# Altium footprint library pre_MICROCIRCUITRY.PcbLib: 35 footprints (part 2 of 3)
Each footprint in its own frame and in the unit in brackets; x right, y up, seen from the top. Pads: shape width x height; smd on the part's side, far side on the other; paste and mask are expansions set on the pad; w line width, h text height; cw(c..) or ccw(c..) is an arc to the next point about the centre after c.
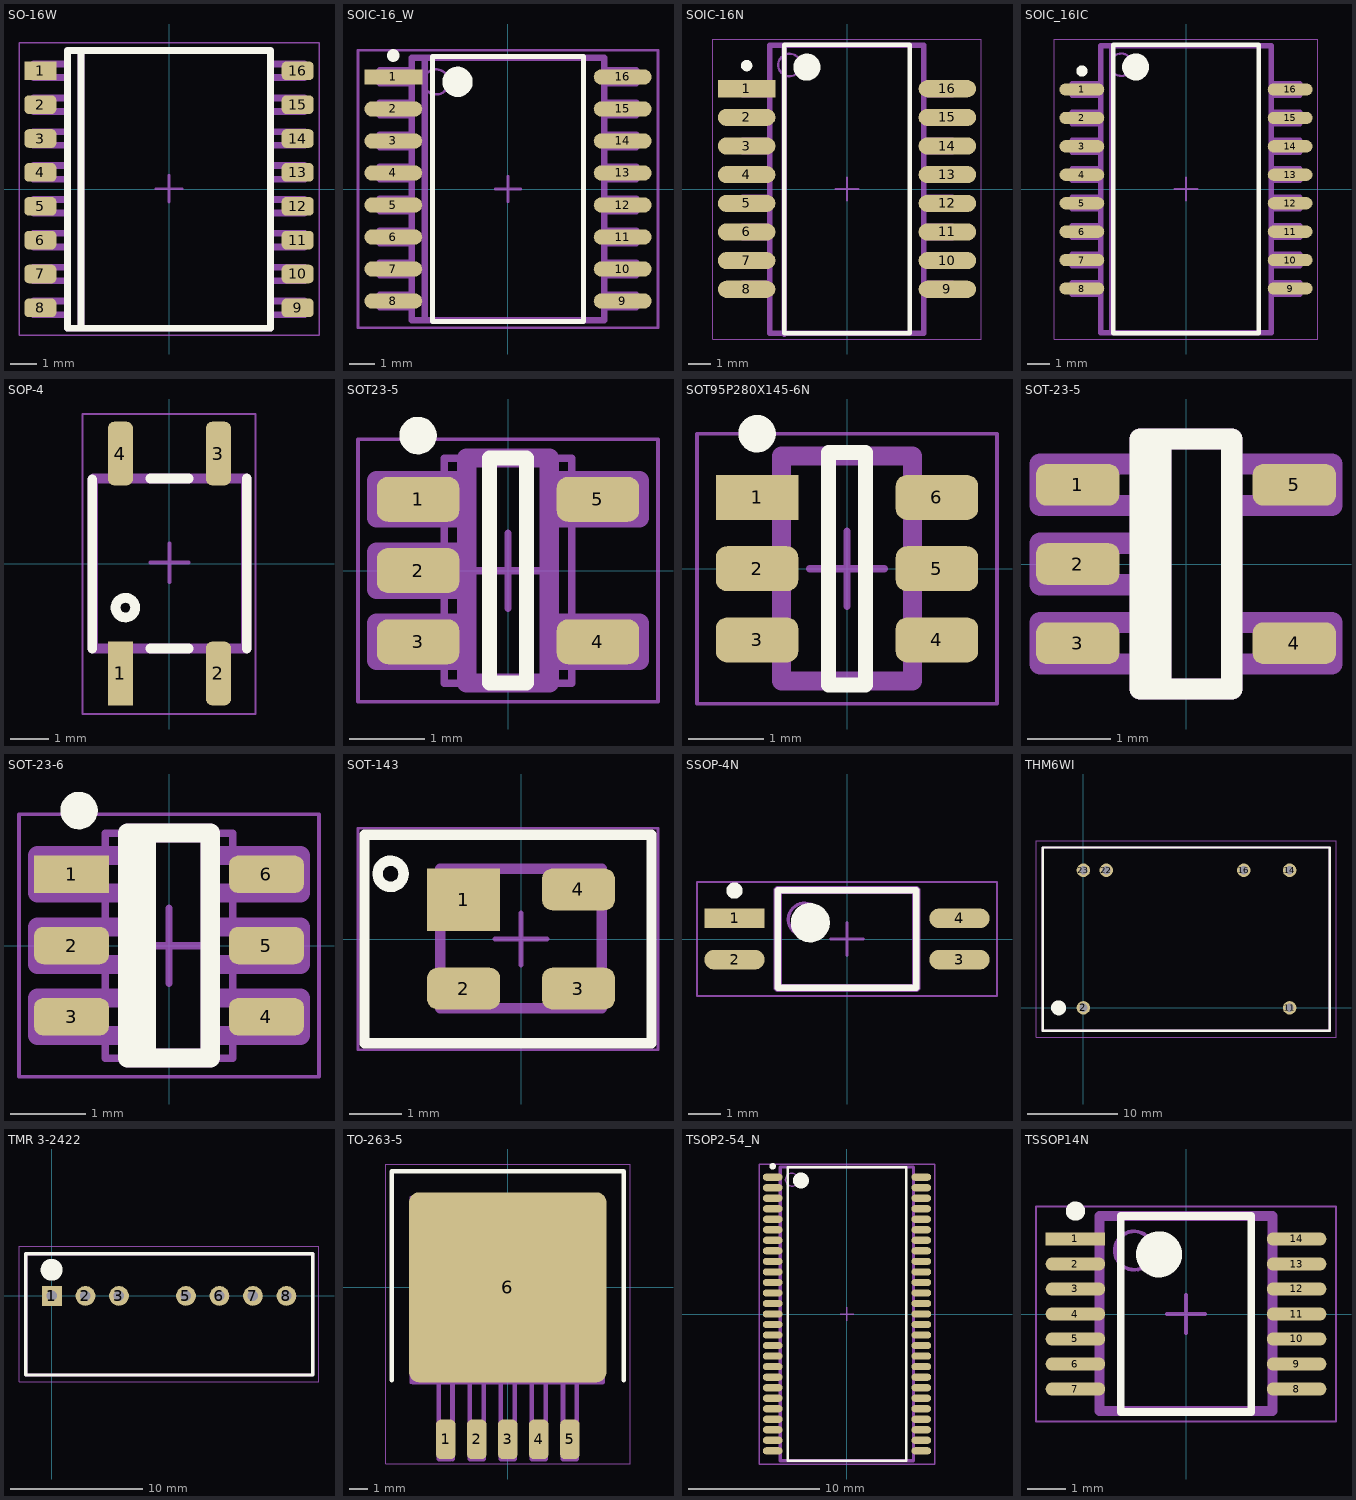
[diagram p1: the footprints below, top view; thin cyan lines are the x and y axes]

## SO-16W [mm]
height 2.65
pads (16):
  rect 1.2x0.7 smd: 1(-4.826,4.445)
  rrect50% 1.2x0.7 smd: 2(-4.826,3.175) 3(-4.826,1.905) 4(-4.826,0.635) 5(-4.826,-0.635) 6(-4.826,-1.905) 7(-4.826,-3.175) 8(-4.826,-4.445) 9(4.826,-4.445) 10(4.826,-3.175) 11(4.826,-1.905) 12(4.826,-0.635) 13(4.826,0.635) 14(4.826,1.905) 15(4.826,3.175) 16(4.826,4.445)
Top Overlay:
  lines w0.254: -3.302,-5.207 -3.302,5.207 ; -3.81,-5.207 -3.81,5.207 3.81,5.207 3.81,-5.207 -3.81,-5.207
Top Assy:
  lines w0.254: -3.81,-4.699 -5.08,-4.699 -5.08,-4.191 -3.81,-4.191 ; -3.81,-3.429 -5.08,-3.429 -5.08,-2.921 -3.81,-2.921 ; -3.81,-2.159 -5.08,-2.159 -5.08,-1.651 -3.81,-1.651 ; -3.81,-0.889 -5.08,-0.889 -5.08,-0.381 -3.81,-0.381 ; -3.81,0.381 -5.08,0.381 -5.08,0.889 -3.81,0.889 ; -3.81,1.651 -5.08,1.651 -5.08,2.159 -3.81,2.159 ; -3.81,2.921 -5.08,2.921 -5.08,3.429 -3.81,3.429 ; -3.81,4.191 -5.08,4.191 -5.08,4.699 -3.81,4.699 ; -3.302,-5.207 -3.302,5.207 ; 3.81,-4.699 5.08,-4.699 5.08,-4.191 3.81,-4.191 ; 3.81,-3.429 5.08,-3.429 5.08,-2.921 3.81,-2.921 ; 3.81,-2.159 5.08,-2.159 5.08,-1.651 3.81,-1.651 ; 3.81,-0.889 5.08,-0.889 5.08,-0.381 3.81,-0.381 ; 3.81,0.381 5.08,0.381 5.08,0.889 3.81,0.889 ; 3.81,1.651 5.08,1.651 5.08,2.159 3.81,2.159 ; 3.81,2.921 5.08,2.921 5.08,3.429 3.81,3.429 ; 3.81,4.191 5.08,4.191 5.08,4.699 3.81,4.699 ; -3.81,-5.207 3.81,-5.207 3.81,5.207 -3.81,5.207 -3.81,-5.207
Mechanical 13:
  lines w0.1: -3.81,-5.2 3.81,-5.2 3.81,5.207 -3.81,5.207 -3.81,-5.2
Mechanical 15:
  lines w0.05: -5.625,-5.475 -5.625,5.5 5.625,5.5 5.625,-5.475 -5.625,-5.475
  lines w0.1: -0.5,0.025 0.5,0.025 ; 0,-0.475 0,0.525
3D body: height 1.75, standoff 0, extent -3.81,-5.207 3.81,5.2

## SOIC-16_W [mm] "16-Pin Small Outline Integrated Circuit 1.27 mm Pitch, IPC Medium Density"
height 2.65
pads (16):
  rect 2.3x0.6 smd: 1(-4.55,4.445)
  oval 2.3x0.6 smd: 2(-4.55,3.175) 3(-4.55,1.905) 4(-4.55,0.635) 5(-4.55,-0.635) 6(-4.55,-1.905) 7(-4.55,-3.175) 8(-4.55,-4.445) 9(4.55,-4.445) 10(4.55,-3.175) 11(4.55,-1.905) 12(4.55,-0.635) 13(4.55,0.635) 14(4.55,1.905) 15(4.55,3.175) 16(4.55,4.445)
Top Overlay:
  circle w0.6: c-2,4.25 r0.3
  circle w0.25: c-4.55,5.295 r0.125
  lines w0.2: -3,-5.25 3,-5.25 3,5.25 -3,5.25 -3,-5.25
Top Assy:
  lines w0.254: -3.81,-4.695 -5.08,-4.695 -5.08,-4.187 -3.81,-4.187 ; -3.81,-3.425 -5.08,-3.425 -5.08,-2.917 -3.81,-2.917 ; -3.81,-2.155 -5.08,-2.155 -5.08,-1.647 -3.81,-1.647 ; -3.81,-0.885 -5.08,-0.885 -5.08,-0.377 -3.81,-0.377 ; -3.81,0.385 -5.08,0.385 -5.08,0.893 -3.81,0.893 ; -3.81,1.655 -5.08,1.655 -5.08,2.163 -3.81,2.163 ; -3.81,2.925 -5.08,2.925 -5.08,3.433 -3.81,3.433 ; -3.81,4.195 -5.08,4.195 -5.08,4.703 -3.81,4.703 ; -3.302,-5.203 -3.302,5.211 ; 3.81,-4.695 5.08,-4.695 5.08,-4.187 3.81,-4.187 ; 3.81,-3.425 5.08,-3.425 5.08,-2.917 3.81,-2.917 ; 3.81,-2.155 5.08,-2.155 5.08,-1.647 3.81,-1.647 ; 3.81,-0.885 5.08,-0.885 5.08,-0.377 3.81,-0.377 ; 3.81,0.385 5.08,0.385 5.08,0.893 3.81,0.893 ; 3.81,1.655 5.08,1.655 5.08,2.163 3.81,2.163 ; 3.81,2.925 5.08,2.925 5.08,3.433 3.81,3.433 ; 3.81,4.195 5.08,4.195 5.08,4.703 3.81,4.703 ; -3.81,-5.203 -3.81,5.211 3.81,5.211 3.81,-5.203 -3.81,-5.203
Mechanical 13:
  circle w0.1: c-2.85,4.25 r0.5
  lines w0.1: -3.75,-5.15 3.75,-5.15 3.75,5.15 -3.75,5.15 -3.75,-5.15
Mechanical 15:
  lines w0.1: -0.5,0 0.5,0 ; 0,-0.5 0,0.5 ; -5.95,-5.5 5.95,-5.5 5.95,5.5 -5.95,5.5 -5.95,-5.5
3D body: height 2.65, standoff 0, extent -3.75,-5.15 3.75,5.15

## SOIC-16N [mm] "SOIC, 16-Leads, Body 12,80x6,90mm, Pitch 1,27mm, IPC Medium Density"
height 5.65
pads (16):
  rect 2.55x0.76 smd: 1(-4.45,4.445)
  oval 2.55x0.76 smd: 2(-4.45,3.175) 3(-4.45,1.905) 4(-4.45,0.635) 5(-4.45,-0.635) 6(-4.45,-1.905) 7(-4.45,-3.175) 8(-4.45,-4.445) 9(4.45,-4.445) 10(4.45,-3.175) 11(4.45,-1.905) 12(4.45,-0.635) 13(4.45,0.635) 14(4.45,1.905) 15(4.45,3.175) 16(4.45,4.445)
Top Overlay:
  circle w0.6: c-1.775,5.4 r0.3
  circle w0.25: c-4.45,5.47 r0.125
  lines w0.2: -2.775,-6.4 2.775,-6.4 2.775,6.4 -2.775,6.4 -2.775,-6.4
Top Assy:
  lines w0.254: -3.435,-4.698 -4.625,-4.698 -4.625,-4.19 -3.435,-4.19 ; -3.435,-3.428 -4.625,-3.428 -4.625,-2.92 -3.435,-2.92 ; -3.435,-2.158 -4.625,-2.158 -4.625,-1.65 -3.435,-1.65 ; -3.435,-0.888 -4.625,-0.888 -4.625,-0.38 -3.435,-0.38 ; -3.435,0.382 -4.625,0.382 -4.625,0.89 -3.435,0.89 ; -3.435,1.652 -4.625,1.652 -4.625,2.16 -3.435,2.16 ; -3.435,2.922 -4.625,2.922 -4.625,3.43 -3.435,3.43 ; -3.435,4.192 -4.625,4.192 -4.625,4.7 -3.435,4.7 ; -2.777,-6.425 -2.777,6.35 ; 3.405,-4.698 4.675,-4.698 4.675,-4.19 3.405,-4.19 ; 3.405,-3.428 4.675,-3.428 4.675,-2.92 3.405,-2.92 ; 3.405,-2.158 4.675,-2.158 4.675,-1.65 3.405,-1.65 ; 3.405,-0.888 4.675,-0.888 4.675,-0.38 3.405,-0.38 ; 3.405,0.382 4.675,0.382 4.675,0.89 3.405,0.89 ; 3.405,1.652 4.675,1.652 4.675,2.16 3.405,2.16 ; 3.405,2.922 4.675,2.922 4.675,3.43 3.405,3.43 ; 3.405,4.192 4.675,4.192 4.675,4.7 3.405,4.7 ; -3.425,-6.4 -3.425,6.375 3.4,6.375 3.4,-6.4 -3.425,-6.4
Mechanical 13:
  circle w0.1: c-2.55,5.5 r0.5
  lines w0.1: -3.45,-6.4 3.45,-6.4 3.45,6.4 -3.45,6.4 -3.45,-6.4
Mechanical 15:
  lines w0.05: -5.95,-6.65 5.95,-6.65 5.95,6.65 -5.95,6.65 -5.95,-6.65
  lines w0.1: -0.5,0 0.5,0 ; 0,-0.5 0,0.5
3D body: height 5.65, standoff 0.3, extent -3.45,-6.4 3.45,6.4

## SOIC_16IC [mm] "D?"
height 2.64
pads (16):
  oval 2x0.55 smd: 1(-4.65,4.445) 2(-4.65,3.175) 3(-4.65,1.905) 4(-4.65,0.635) 5(-4.65,-0.635) 6(-4.65,-1.905) 7(-4.65,-3.175) 8(-4.65,-4.445) 9(4.65,-4.445) 10(4.65,-3.175) 11(4.65,-1.905) 12(4.65,-0.635) 13(4.65,0.635) 14(4.65,1.905) 15(4.65,3.175) 16(4.65,4.445)
Top Overlay:
  circle w0.6: c-2.25,5.45 r0.3
  circle w0.25: c-4.65,5.27 r0.125
  lines w0.2: -3.25,-6.45 3.25,-6.45 3.25,6.45 -3.25,6.45 -3.25,-6.45
Top Assy:
  lines w0.254: -3.81,-4.695 -5.08,-4.695 -5.08,-4.187 -3.81,-4.187 ; -3.81,-3.425 -5.08,-3.425 -5.08,-2.917 -3.81,-2.917 ; -3.81,-2.155 -5.08,-2.155 -5.08,-1.647 -3.81,-1.647 ; -3.81,-0.885 -5.08,-0.885 -5.08,-0.377 -3.81,-0.377 ; -3.81,0.385 -5.08,0.385 -5.08,0.893 -3.81,0.893 ; -3.81,1.655 -5.08,1.655 -5.08,2.163 -3.81,2.163 ; -3.81,2.925 -5.08,2.925 -5.08,3.433 -3.81,3.433 ; -3.81,4.195 -5.08,4.195 -5.08,4.703 -3.81,4.703 ; -3.302,-6.4 -3.302,6.4 ; 3.81,-4.695 5.08,-4.695 5.08,-4.187 3.81,-4.187 ; 3.81,-3.425 5.08,-3.425 5.08,-2.917 3.81,-2.917 ; 3.81,-2.155 5.08,-2.155 5.08,-1.647 3.81,-1.647 ; 3.81,-0.885 5.08,-0.885 5.08,-0.377 3.81,-0.377 ; 3.81,0.385 5.08,0.385 5.08,0.893 3.81,0.893 ; 3.81,1.655 5.08,1.655 5.08,2.163 3.81,2.163 ; 3.81,2.925 5.08,2.925 5.08,3.433 3.81,3.433 ; 3.81,4.195 5.08,4.195 5.08,4.703 3.81,4.703 ; -3.81,-6.425 -3.81,6.4 -0.716,6.4 3.094,6.4 3.81,6.4 3.81,-6.425 -3.81,-6.425
Mechanical 11:
  lines w0.05: -5.875,-6.7 5.875,-6.7 5.875,6.7 -5.875,6.7 -5.875,-6.7
  lines w0.1: -0.5,0 0.5,0 ; 0,-0.5 0,0.5
Mechanical 13:
  circle w0.1: c-2.9,5.55 r0.5
  lines w0.1: -3.8,-6.45 3.8,-6.45 3.8,6.45 -3.8,6.45 -3.8,-6.45
3D body: height 2.64, standoff 0.23, extent -3.8,-6.45 3.8,6.45

## SOP-4 [mm]
height 2.1
pads (4):
  rect 0.65x1.65 smd: 1(-1.27,-2.85)
  rrect50% 0.65x1.65 smd: 2(1.27,-2.85) 3(1.27,2.85) 4(-1.27,2.85)
Top Overlay:
  circle w0.254: c-1.143,-1.143 r0.254
  lines w0.254: -2,-2.2 -2,2.175 ; -0.5,-2.2 0.5,-2.2 ; -0.5,2.2 0.5,2.2 ; 2,-2.2 2,2.2
Top Assy:
  lines w0.254: -2,-2.2 -2,2.175 -1.975,2.2 2,2.2 2,-2.2 -2,-2.2
Mechanical 13:
  lines w0.1: -1.905,-2.2 1.905,-2.2 1.905,2.2 -1.905,2.2 -1.905,-2.2
Mechanical 15:
  lines w0.05: -2.25,-3.9 -2.25,3.875 2.225,3.875 2.225,-3.9 -2.25,-3.9
  lines w0.1: -0.5,0.025 0.5,0.025 ; 0,-0.475 0,0.525
3D body: height 2.1, standoff 0, extent -2,-2.2 2,2.2

## SOT23-5 [mm] "SOT23, 5-Leads, Body 2,90x2,80mm, Pitch 0,95mm, IPC Medium Density"
height 1.45
pads (5):
  rrect50% 1.1x0.6 smd: 1(-1.2,0.95) 2(-1.2,0) 3(-1.2,-0.95) 4(1.2,-0.95) 5(1.2,0.95)
Top Overlay:
  circle w0.25: c-1.2,1.8 r0.125
  lines w0.2: -0.25,-1.5 -0.25,1.5 0.25,1.5 0.25,-1.5 -0.25,-1.5
Top Assy:
  lines w0.254: -0.6,-1.2 -1.75,-1.2 -1.75,-0.7 -0.6,-0.7 ; -0.6,0.25 -1.75,0.25 -1.75,-0.25 -0.55,-0.25 ; -0.6,0.7 -1.75,0.7 -1.75,1.2 -1.45,1.2 -0.85,1.2 -0.55,1.2 ; 0.55,-1.2 1.75,-1.2 1.75,-0.7 0.55,-0.7 ; 0.55,0.7 1.75,0.7 1.75,1.2 0.6,1.2 ; -0.55,-1.5 -0.55,1.5 0.55,1.5 0.55,-1.5 -0.55,-1.5
Mechanical 13:
  lines w0.1: -0.85,-1.5 0.85,-1.5 0.85,1.5 -0.85,1.5 -0.85,-1.5
Mechanical 15:
  lines w0.05: -2,-1.75 2,-1.75 2,1.75 -2,1.75 -2,-1.75
  lines w0.1: -0.5,0 0.5,0 ; 0,-0.5 0,0.5
3D body: height 1.45, standoff 0.1, extent -0.85,-1.5 0.85,1.5

## SOT95P280X145-6N [mm] "SOT23-6L"
height 1.45
pads (6):
  rect 1.1x0.6 smd: 1(-1.2,0.95)
  rrect50% 1.1x0.6 smd: 2(-1.2,0) 3(-1.2,-0.95) 4(1.2,-0.95) 5(1.2,0) 6(1.2,0.95)
Top Overlay:
  circle w0.25: c-1.2,1.8 r0.125
  lines w0.2: -0.25,-1.55 -0.25,1.55 0.25,1.55 0.25,-1.55 -0.25,-1.55
Top Assy:
  lines w0.254: -0.875,-1.5 0.875,-1.5 0.875,1.5 -0.875,1.5 -0.875,-1.5
Mechanical 13:
  lines w0.1: -0.875,-1.525 0.875,-1.525 0.875,1.525 -0.875,1.525 -0.875,-1.525
Mechanical 15:
  lines w0.05: -2,-1.8 2,-1.8 2,1.8 -2,1.8 -2,-1.8
  lines w0.1: -0.5,0 0.5,0 ; 0,-0.5 0,0.5
3D body: height 1.45, standoff 0, extent -0.875,-1.525 0.875,1.525

## SOT-23-5 [mm]
height 1.45
pads (5):
  rrect50% 1x0.5 smd: 1(-1.3,0.95) 2(-1.3,0) 3(-1.3,-0.95) 4(1.3,-0.95) 5(1.3,0.95)
Top Overlay:
  lines w0.254: -0.3,-1.5 -0.3,1.5 -0.55,1.5 ; -0.55,1.5 0.55,1.5 0.55,-1.5 -0.55,-1.5 -0.55,1.5
Top Assy:
  lines w0.254: -0.6,-1.2 -1.75,-1.2 -1.75,-0.7 -0.6,-0.7 ; -0.6,0.25 -1.75,0.25 -1.75,-0.25 -0.55,-0.25 ; -0.55,0.75 -0.6,0.7 -1.75,0.7 -1.75,1.2 -1.45,1.2 -0.85,1.2 -0.55,1.2 ; -0.35,-1.5 -0.3,-1.45 -0.3,1.5 ; 0.55,-1.2 1.75,-1.2 1.75,-0.7 0.55,-0.7 ; 0.55,0.7 1.75,0.7 1.75,1.2 0.6,1.2 ; -0.55,-1.5 0.55,-1.5 0.55,1.5 -0.55,1.5 -0.55,-1.5

## SOT-23-6 [mm]
height 1.45
pads (6):
  rect 1x0.5 smd: 1(-1.3,0.95)
  rrect50% 1x0.5 smd: 2(-1.3,0) 3(-1.3,-0.95) 4(1.3,-0.95) 5(1.3,0) 6(1.3,0.95)
Top Overlay:
  circle w0.25: c-1.2,1.8 r0.125
  lines w0.254: -0.3,-1.5 -0.3,1.5 -0.55,1.5 ; -0.55,1.5 -0.55,-1.5 0.55,-1.5 0.55,1.5 -0.55,1.5
Top Assy:
  lines w0.254: -0.6,-1.2 -1.75,-1.2 -1.75,-0.7 -0.6,-0.7 ; -0.6,0.25 -1.75,0.25 -1.75,-0.25 -0.55,-0.25 ; -0.55,0.75 -0.6,0.7 -1.75,0.7 -1.75,1.2 -1.45,1.2 -0.85,1.2 -0.55,1.2 ; -0.35,-1.5 -0.3,-1.45 -0.3,1.5 ; 0.55,-1.2 1.75,-1.2 1.75,-0.7 0.55,-0.7 ; 0.55,0.25 1.75,0.25 1.75,-0.25 0.6,-0.25 ; 0.55,0.7 1.75,0.7 1.75,1.2 0.6,1.2 ; -0.55,-1.5 -0.55,1.5 0.55,1.5 0.55,-1.5 -0.55,-1.5
Mechanical 13:
  lines w0.1: -0.85,-1.5 -0.85,1.5 0.85,1.5 0.85,-1.5 -0.85,-1.5
Mechanical 15:
  lines w0.05: -2,-1.75 -2,1.75 2,1.75 2,-1.75 -2,-1.75
  lines w0.1: -0.5,0 0.5,0 ; 0,-0.5 0,0.5
3D body: height 1.45, standoff 0.1, extent -0.85,-1.5 0.85,1.5

## SOT-143 [mm]
height 1.25
pads (4):
  rect 1.4x1.2 smd: 1(-1.1,0.75)
  rrect50% 1.4x0.8 smd: 2(-1.1,-0.95) 3(1.1,-0.95) 4(1.1,0.95)
Top Overlay:
  circle w0.2: c-2.5,1.25 r0.25
  lines w0.2: -3,-2 -3,2 2.5,2 2.5,-2 -3,-2
Top Assy:
  circle w0.1: c-1,0.75 r0.25
  lines w0.2: -1.55,-1.325 -1.55,1.35 1.55,1.35 1.55,-1.325 -1.55,-1.325
Mechanical 13:
  circle w0.1: c-1.05,0.85 r0.25
  lines w0.2: -1.55,-1.325 1.55,-1.325 1.55,1.35 -0.95,1.35 -1.55,1.35 -1.55,0.575 -1.55,-1.325
Mechanical 15:
  lines w0.05: -3.125,-2.125 -3.125,2.125 2.625,2.125 2.625,-2.125 -3.125,-2.125
  lines w0.1: -0.5,0 0.5,0 ; 0,-0.5 0,0.5
3D body: height 1.25, standoff 0, extent -1.65,-1.425 1.65,1.45
3D body: height 1.3, standoff 0, extent -1.304,0.596 -0.796,1.104

## SSOP-4N [mm] "SOP, 4-Leads, Body 2,70x4,40mm, Pitch 1,27mm, IPC Medium Density"
height 2.1
pads (4):
  rect 1.85x0.6 smd: 1(-3.45,0.635)
  oval 1.85x0.6 smd: 2(-3.45,-0.635) 3(3.45,-0.635) 4(3.45,0.635)
Top Overlay:
  circle w0.6: c-1.125,0.5 r0.3
  circle w0.25: c-3.45,1.485 r0.125
  lines w0.2: -2.125,-1.5 2.125,-1.5 2.125,1.5 -2.125,1.5 -2.125,-1.5
Top Assy:
  lines w0.254: -2.125,-1.5 -2.125,1.5 2.125,1.5 2.125,-1.5 -2.125,-1.5
Mechanical 13:
  circle w0.1: c-1.3,0.6 r0.5
  lines w0.1: -2.2,-1.5 2.2,-1.5 2.2,1.5 -2.2,1.5 -2.2,-1.5
Mechanical 15:
  lines w0.05: -4.6,-1.75 4.6,-1.75 4.6,1.75 -4.6,1.75 -4.6,-1.75
  lines w0.1: -0.5,0 0.5,0 ; 0,-0.5 0,0.5
3D body: height 2.1, standoff 0.1, extent -2.2,-1.5 2.2,1.5

## THM6WI [mm]
height 10.2
pads (6):
  round 1.5 hole 0.9: 2(0,0) 11(22.86,0) 14(22.86,15.24) 16(17.78,15.24) 22(2.54,15.24) 23(0,15.24)
Top Overlay:
  circle w1.254: c-2.75,0 r0.2
  lines w0.254: -4.5,-2.54 27.3,-2.54 27.3,17.76 -4.5,17.76 -4.5,-2.54
Top Assy:
  lines w0.254: -4.5,-2.54 -4.5,17.76 27.3,17.76 27.3,-2.54 -4.5,-2.54
Mechanical 13:
  lines w0.1: -4.5,-2.54 27.3,-2.54 27.3,17.76 -4.5,17.76 -4.5,-2.54
Mechanical 15:
  lines w0.05: -5.25,-3.25 28,-3.25 28,18.5 -5.25,18.5 -5.25,-3.25
  lines w0.1: -0.5,0 0.5,0 ; -0.4,-0.05 0.6,-0.05 ; 0,-0.5 0,0.5 0,-0.5
3D body: height 10.2, standoff 0, extent -4.5,-2.54 27.3,17.76

## TMR 3-2422 [mm]
height 11.1
pads (7):
  rect 1.5x1.5 hole 0.8: 1(0,0)
  round 1.5 hole 0.8: 2(2.54,0) 3(5.08,0) 5(10.16,0) 6(12.7,0) 7(15.24,0) 8(17.78,0)
Top Overlay:
  circle w1.254: c-0.025,1.975 r0.2
  lines w0.254: -2,-6 19.78,-6 19.78,3.2 -2,3.2 -2,-6
Top Assy:
  lines w0.254: -2,-6 -2,3.2 19.78,3.2 19.78,-6 -2,-6
Mechanical 13:
  lines w0.1: -2,-6 19.78,-6 19.78,3.2 -2,3.2 -2,-6
Mechanical 15:
  lines w0.05: -2.5,-6.5 20.25,-6.5 20.25,3.75 -2.5,3.75 -2.5,-6.5
  lines w0.1: 18.14,-0.425 18.14,0.575 ; -0.5,0 0.5,0 -0.5,0 ; 0,-0.5 0,0.5 0,-0.5
3D body: height 11.1, standoff 0, extent -2,-6.025 19.775,3.2

## TO-263-5 [mm]
height 4.8
pads (6):
  rrect50% 1.07x2.16 smd: 1(-3.4,-8.33) 2(-1.7,-8.33) 3(0,-8.33) 4(1.7,-8.33) 5(3.4,-8.33)
  rrect10% 10.8x10.4 smd: 6(0,0)
Top Overlay:
  lines w0.254: -6.35,-5.08 -6.35,6.35 6.35,6.35 6.35,-5.08
Top Assy:
  lines w0.254: -3.785,-5.207 -3.785,-9.398 -3.531,-9.398 -3.15,-9.398 ; -3.023,-9.398 -3.023,-5.207 ; -2.083,-5.207 -2.083,-9.398 -1.829,-9.398 -1.321,-9.398 -1.321,-5.207 ; -0.381,-5.207 -0.381,-9.398 -0.127,-9.398 0.381,-9.398 0.381,-5.207 ; 1.321,-5.207 1.321,-9.398 1.575,-9.398 2.083,-9.398 2.083,-5.207 ; 3.023,-5.207 3.023,-9.398 3.277,-9.398 3.785,-9.398 3.785,-5.207 ; -5.207,3.683 -5.207,-5.207 5.207,-5.207 5.207,3.683 ; -5.207,3.683 5.207,3.683 ; -5.207,3.683 -3.937,4.953 3.683,4.953 3.937,4.953 5.207,3.683
Mechanical 13:
  lines w0.1: -5.325,-5.25 -5.325,4.953 5.25,4.953 5.25,-5.25 -5.325,-5.25
Mechanical 15:
  lines w0.05: -6.675,-9.675 -6.675,6.75 6.7,6.75 6.7,-9.675 -6.675,-9.675
  lines w0.1: -0.5,0 0.5,0 ; 0,-0.5 0,0.5
3D body: height 4.8, standoff 0.1, extent -5.3,-5.25 5.275,4.925

## TSOP2-54_N [mm] "54-Pin Plastic Small Outline Package 0.8 mm Pitch, IPC Medium Density"
height 1.2
pads (54):
  oval 1.5x0.55 smd: 1(-5.65,10.4) 2(-5.65,9.6) 3(-5.65,8.8) 4(-5.65,8) 5(-5.65,7.2) 6(-5.65,6.4) 7(-5.65,5.6) 8(-5.65,4.8) 9(-5.65,4) 10(-5.65,3.2) 11(-5.65,2.4) 12(-5.65,1.6) 13(-5.65,0.8) 14(-5.65,0) 15(-5.65,-0.8) 16(-5.65,-1.6) 17(-5.65,-2.4) 18(-5.65,-3.2) 19(-5.65,-4) 20(-5.65,-4.8) 21(-5.65,-5.6) 22(-5.65,-6.4) 23(-5.65,-7.2) 24(-5.65,-8) 25(-5.65,-8.8) 26(-5.65,-9.6) 27(-5.65,-10.4) 28(5.65,-10.4) 29(5.65,-9.6) 30(5.65,-8.8) 31(5.65,-8) 32(5.65,-7.2) 33(5.65,-6.4) 34(5.65,-5.6) 35(5.65,-4.8) 36(5.65,-4) 37(5.65,-3.2) 38(5.65,-2.4) 39(5.65,-1.6) 40(5.65,-0.8) 41(5.65,0) 42(5.65,0.8) 43(5.65,1.6) 44(5.65,2.4) 45(5.65,3.2) 46(5.65,4) 47(5.65,4.8) 48(5.65,5.6) 49(5.65,6.4) 50(5.65,7.2) 51(5.65,8) 52(5.65,8.8) 53(5.65,9.6) 54(5.65,10.4)
Top Overlay:
  circle w0.25: c-5.65,11.225 r0.125
  circle w0.6: c-3.5,10.15 r0.3
  lines w0.2: -4.5,-11.15 -4.5,11.15 4.5,11.15 4.5,-11.15 -4.5,-11.15
Top Assy:
  lines w0.254: -5.08,-11.15 -5.08,11.175 5.05,11.175 5.05,-11.15 -5.08,-11.15
Mechanical 13:
  circle w0.1: c-4.18,10.21 r0.5
  lines w0.1: -5.08,-11.11 -5.08,11.11 5.08,11.11 5.08,-11.11 -5.08,-11.11
Mechanical 15:
  lines w0.1: -0.5,0 0.5,0 ; 0,-0.5 0,0.5 ; -6.65,-11.4 -6.65,11.4 6.65,11.4 6.65,-11.4 -6.65,-11.4
3D body: height 1.2, standoff 0, extent -5.08,-11.11 5.08,11.11

## TSSOP14N [mm] "TSSOP, 14-Leads, Body 5,00x4,40mm, Pitch 0,65mm, IPC Medium Density"
height 1.05
pads (14):
  rect 1.55x0.35 smd: 1(-2.875,1.95)
  oval 1.55x0.35 smd: 2(-2.875,1.3) 3(-2.875,0.65) 4(-2.875,0) 5(-2.875,-0.65) 6(-2.875,-1.3) 7(-2.875,-1.95) 8(2.875,-1.95) 9(2.875,-1.3) 10(2.875,-0.65) 11(2.875,0) 12(2.875,0.65) 13(2.875,1.3) 14(2.875,1.95)
Top Overlay:
  circle w0.25: c-2.875,2.675 r0.125
  circle w0.6: c-0.7,1.55 r0.3
  lines w0.2: -1.7,-2.55 -1.7,2.55 1.7,2.55 1.7,-2.55 -1.7,-2.55
Top Assy:
  lines w0.254: -2.25,-2.525 -2.25,2.55 2.25,2.55 2.25,-2.525 -2.25,-2.525
Mechanical 13:
  circle w0.1: c-1.35,1.65 r0.5
  lines w0.1: -2.25,-2.55 -2.25,2.55 2.25,2.55 2.25,-2.55 -2.25,-2.55
Mechanical 15:
  lines w0.05: -3.9,-2.8 -3.9,2.8 3.9,2.8 3.9,-2.8 -3.9,-2.8
  lines w0.1: -0.5,0 0.5,0 ; 0,-0.5 0,0.5
3D body: height 1.05, standoff 0.09, extent -2.25,-2.55 2.25,2.55